# Altium footprint library Small Outline with C-Bend Leads.PcbLib: 3 footprints
Each footprint in its own frame and in the unit in brackets; x right, y up, seen from the top. Pads: shape width x height; smd on the part's side, far side on the other; paste and mask are expansions set on the pad; w line width, h text height; cw(c..) or ccw(c..) is an arc to the next point about the centre after c.
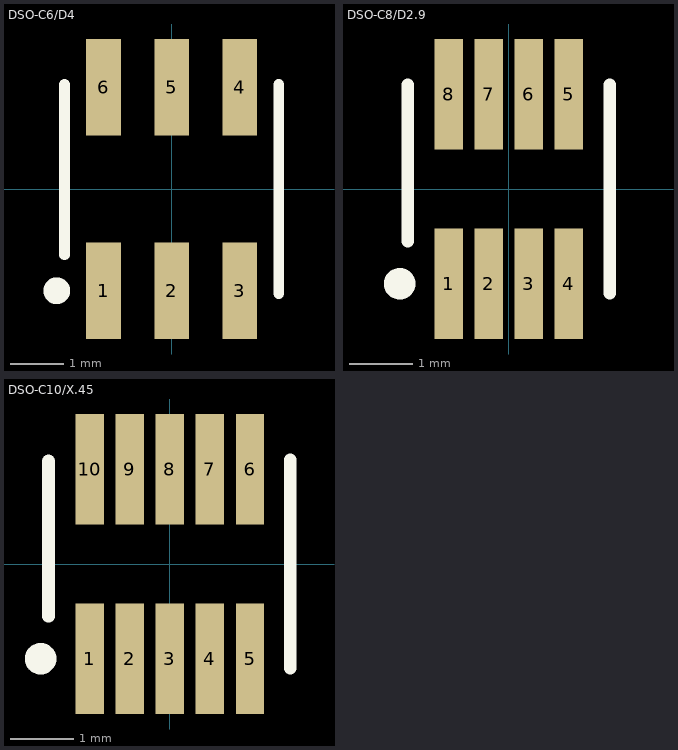
[diagram p0: the footprints below, top view; thin cyan lines are the x and y axes]

## DSO-C6/D4 [mm] "Small Outline; 6 C-Bend Leads; Body Width 3.8 mm; Pitch 1.27 mm"
height 1.5
pads (6):
  rect 0.65x1.8 smd: 1(-1.27,-1.9) 2(0,-1.9) 3(1.27,-1.9) 4(1.27,1.9) 5(0,1.9) 6(-1.27,1.9)
Top Overlay:
  circle w0.25: c-2.145,-1.9 r0.125
  lines w0.2: -2,-1.23 -2,1.95 ; 2,-1.95 2,1.95

## DSO-C8/D2.9 [mm] "Small Outline; 8 C-Bend Leads; Body Width 3.2 mm; Pitch 0.635 mm"
height 1.4
pads (8):
  rect 0.45x1.75 smd: 1(-0.953,-1.5) 2(-0.318,-1.5) 3(0.318,-1.5) 4(0.953,-1.5) 5(0.953,1.5) 6(0.318,1.5) 7(-0.318,1.5) 8(-0.953,1.5)
Top Overlay:
  circle w0.25: c-1.727,-1.5 r0.125
  lines w0.2: -1.6,-0.83 -1.6,1.65 ; 1.6,-1.65 1.6,1.65

## DSO-C10/X.45 [mm] "Small Outline; 10 C-Bend Leads; Body Width 3.2 mm; Pitch 0.635 mm"
height 1.4
pads (10):
  rect 0.45x1.75 smd: 1(-1.27,-1.5) 2(-0.635,-1.5) 3(0,-1.5) 4(0.635,-1.5) 5(1.27,-1.5) 6(1.27,1.5) 7(0.635,1.5) 8(0,1.5) 9(-0.635,1.5) 10(-1.27,1.5)
Top Overlay:
  circle w0.25: c-2.045,-1.5 r0.125
  lines w0.2: -1.92,-0.83 -1.92,1.63 ; 1.91,-1.65 1.91,1.65